# Altium footprint library Footprints.PcbLib: 52 footprints (part 4 of 4)
Each footprint in its own frame and in the unit in brackets; x right, y up, seen from the top. Pads: shape width x height; smd on the part's side, far side on the other; paste and mask are expansions set on the pad; w line width, h text height; cw(c..) or ccw(c..) is an arc to the next point about the centre after c.
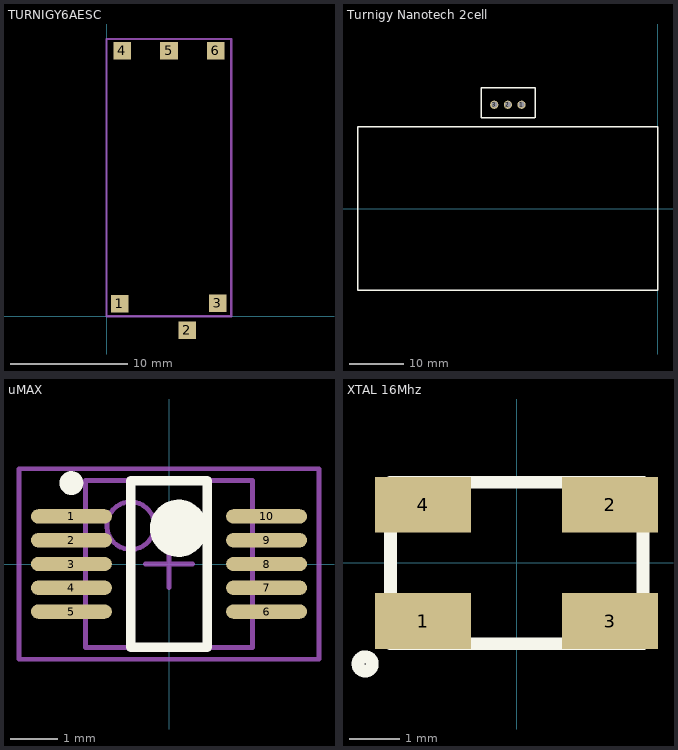
[diagram p3: the footprints below, top view; thin cyan lines are the x and y axes]

## TURNIGY6AESC [mm]
pads (6):
  rect 1.5x1.5 smd: 1(1.15,1.05) 2(6.9,-1.2) 3(9.525,1.125) 4(1.35,22.75) 5(5.35,22.75) 6(9.35,22.75)
Mechanical 15:
  lines w0.2: 10.675,0 10.675,23.75 0,23.75 0,0 10.7,0
3D body: height 3.3, standoff 2, extent 0,0 10.625,23.75

## Turnigy Nanotech 2cell [mm] "LiPo 2 cell battery 7.4V"
height 10
pads (3):
  round 1.5 hole 1.1: 1(-25.02,19.05) 2(-27.52,19.05) 3(-30.02,19.05)
Top Overlay:
  lines w0.254: -22.6,16.7 -32.4,16.7 -32.4,22.2 -22.5,22.2 -22.5,16.7 ; -55,-15 -55,15 0,15 0,-15 -55,-15
3D body: height 7.01, standoff -5.08, extent -32.446,16.67 -22.54,22.156
3D body: height 11, standoff 5, extent -55,-15 0,15

## uMAX [mm] "TSSOP, 10-Leads, Body 3.5x3.5mm (max), Pitch 0.50mm, IPC Medium Density"
height 1.092
pads (10):
  oval 1.7x0.3 smd: 1(-2.05,1) 2(-2.05,0.5) 3(-2.05,0) 4(-2.05,-0.5) 5(-2.05,-1) 6(2.05,-1) 7(2.05,-0.5) 8(2.05,0) 9(2.05,0.5) 10(2.05,1)
Top Overlay:
  circle w0.6: c0.2,0.75 r0.3
  circle w0.25: c-2.05,1.7 r0.125
  lines w0.2: -0.8,-1.75 0.8,-1.75 0.8,1.75 -0.8,1.75 -0.8,-1.75
Mechanical 13:
  circle w0.1: c-0.805,0.805 r0.5
  lines w0.1: -1.755,-1.755 1.755,-1.755 1.755,1.755 -1.755,1.755 -1.755,-1.755
Mechanical 15:
  lines w0.1: -0.5,0 0.5,0 ; 0,-0.5 0,0.5 ; -3.15,-2 3.15,-2 3.15,2 -3.15,2 -3.15,-2
3D body: height 1.09, standoff 0.15, extent -1.755,-1.755 1.755,1.755

## XTAL 16Mhz [mm] "16Mhz XTAL"
height 1
pads (4):
  rect 1.9x1.1 smd: 1(-1.85,-1.15) 2(1.85,1.15) 3(1.85,-1.15) 4(-1.85,1.15)
Top Overlay:
  circle w0.254: c-3,-2 r0.141
  lines w0.254: -2.5,-1.6 2.5,-1.6 2.5,1.6 -2.5,1.6 -2.5,-1.6
3D body: height 1, standoff 0, extent -2.5,-1.6 2.5,1.6